# Altium schematic symbol library ZZQ_Schlib.SchLib: 86 symbols (part 3 of 3)
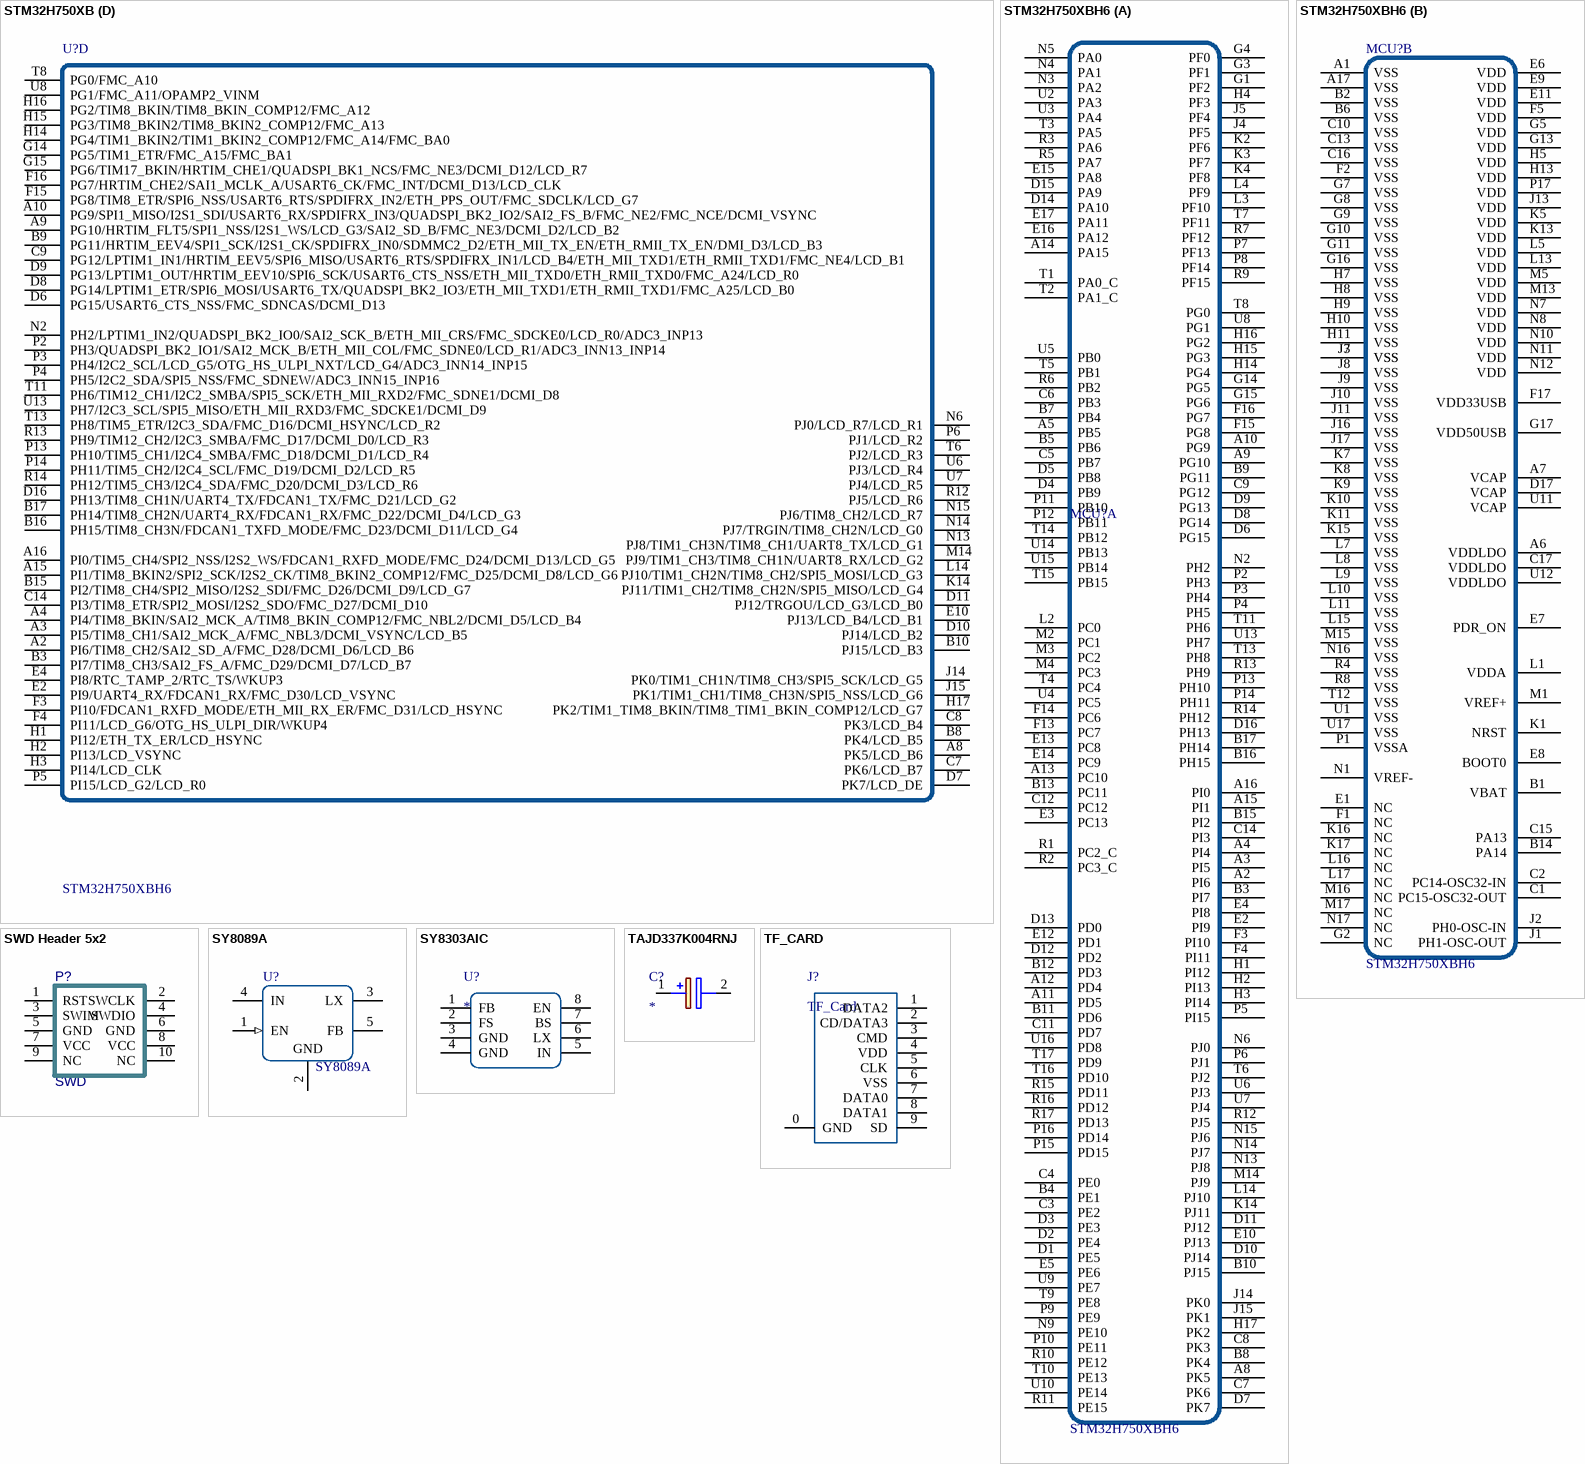
[diagram p10: symbols STM32H750XB to TF_CARD]

## SY8089A
designator U?
Single Output Low Noise LDO, 400 mA, Fixed 3.3 V Output, 1.7 to 5.5 V Input, with Reverse Current Protection, 5-pin SOT-23 (DBV), -40 to 85 degC, Green (RoHS & no Sb/Br); Manufacturer: Texas Instruments; PartNumber: TPS73633DBVR; Accuracy(%): 1; Fixed Output Options(V): 3.3; Iout(Max)(A): 0.4; Iq(Typ)(mA): 0.3; Rating: Catalog; SubFamily: Single Channel LDO; Vdo(Typ)(mV): 75; Vin(Max)(V): 5.5; Vin(Min)(V): 1.7; DatasheetVersion: SBVS038T; PackageVersion: 4073253-4/K; PackageReference: DBV5; PackageDescription: 5-Pin Plastic Small Outline, Body 1.60 脳 2.90 mm, Pitch 0.95 mm; Supplier 1: Digi-Key; Supplier Part Number 1: 296-27064-2-ND; Supplier 2: Digi-Key; Supplier Part Number 2: 296-27064-1-ND; Supplier 3: Digi-Key; Supplier Part Number 3: 296-27064-6-ND; Supplier 4: Newark; Supplier Part Number 4: 87H2980; Supplier 5: Mouser; Supplier Part Number 5: 595-TPS73633DBVR; Eco-Plan: Green (RoHS & no Sb/Br); Vout Adj(Max)(V): 3.3; Vout Adj(Min)(V): 3.3; Mounting Technology: Surface Mount; Code_JEDEC: MO-178; ComponentLink1Description: Manufacturer URL; ComponentLink1URL: http://www.ti.com/; ComponentLink2Description: Datasheet; ComponentLink2URL: http://www.ti.com/general/docs/lit/getliterature.tsp?genericPartNumber=TPS73633&fileType=pdf; ComponentLink3Description: Package Specification; ComponentLink3URL: http://www.ti.com/litv/pdf/mpds018i; ComponentLink4Description: URL Link1; ComponentLink4URL: Samples URL:http://www.ti.com/product/tps73633#samples
footprint LC-SOT-23-5
pins: 1 EN (in) "Driving the enable pin (EN) high turns on the regulator .Driving this pin low puts the regulator into shutdown mode.EN can be connected to IN if not used.", 2 GND (power) "Ground.", 3 LX (power) "Output for the regulator. A small capacitor (total typical capacitance >= 2.0uF ceramic) is needed from this pin to ground to assure stability.", 4 IN (power) "Input supply.", 5 FB "Fixed voltage versions only; connecting an external capacitor to this pin bypasses noise generated by the internal bandgap. This capacitor allows output noise to be reduced to very low levels."

## SY8303AIC
designator U?
pins: 1 FB (power) "Output for the regulator. A small capacitor (total typical capacitance >= 2.0uF ceramic) is needed from this pin to ground to assure stability.", 2 FS (power) "Output for the regulator. A small capacitor (total typical capacitance >= 2.0uF ceramic) is needed from this pin to ground to assure stability.", 3 GND (power) "Output for the regulator. A small capacitor (total typical capacitance >= 2.0uF ceramic) is needed from this pin to ground to assure stability.", 4 GND (power) "Output for the regulator. A small capacitor (total typical capacitance >= 2.0uF ceramic) is needed from this pin to ground to assure stability.", 5 IN (power) "Output for the regulator. A small capacitor (total typical capacitance >= 2.0uF ceramic) is needed from this pin to ground to assure stability.", 6 LX (power) "Output for the regulator. A small capacitor (total typical capacitance >= 2.0uF ceramic) is needed from this pin to ground to assure stability.", 7 BS (power) "Output for the regulator. A small capacitor (total typical capacitance >= 2.0uF ceramic) is needed from this pin to ground to assure stability.", 8 EN (power) "Output for the regulator. A small capacitor (total typical capacitance >= 2.0uF ceramic) is needed from this pin to ground to assure stability."

## TAJD337K004RNJ
designator C?
Capacitor Polarised; Manufacturer_Name: Kyocera AVX; Manufacturer_Part_Number: TAJD337K004RNJ; Datasheet Link: http://datasheets.avx.com/TAJ.pdf; Height: 3.1mm
footprint CAPPM7344X310N
pins: 1 +, 2 -

## TF_CARD
designator J?, comment TF_Card
TF卡座; 当前库版本V2022.12.25 @淘宝卖家:黄晶宝石: 最新版本发布https://shop463601444.taobao.com; BOM名称: TF卡座
footprint Micro SD (淘宝ID:黄晶宝石)
pins: 0 GND, 1 DATA2, 2 CD/DATA3, 3 CMD, 4 VDD, 5 CLK, 6 VSS, 7 DATA0, 8 DATA1, 9 SD

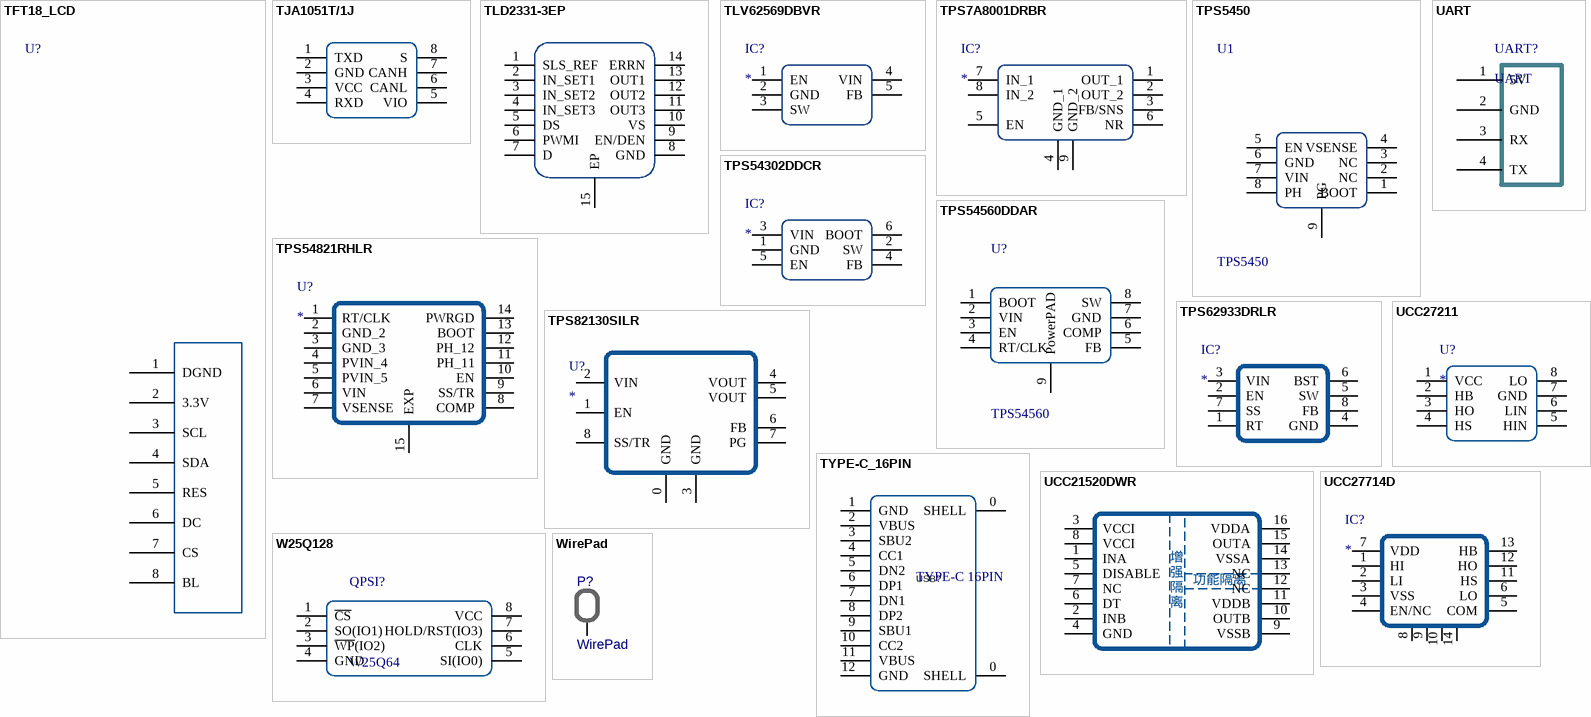
[diagram p7: symbols TFT18_LCD to WirePad]

## TFT18_LCD
designator U?
footprint 18TFT+固定孔
pins: 1 DGND, 2 3.3V, 3 SCL, 4 SDA, 5 RES, 6 DC, 7 CS, 8 BL

## TJA1051T/1J
designator U?  (value not drawn)
Manufacturer: NXP(恩智浦); Add into BOM: yes; Data Rate: 5Mbps; Supply Voltage: 4.5V~5.5V; Name: TJA1051T/1J; Symbol: TJA1051T/1J; Device: TJA1051T/1J; LCSC Part Name: 5Mbps 4.5V~5.5V; Supplier Part: C92211; Manufacturer Part: TJA1051T/1J; Supplier Footprint: SOIC-8; JLCPCB Part Class: Extended Part; Datasheet: https://atta.szlcsc.com/upload/public/pdf/source/20171116/C92211_15108227942971124496.pdf; Supplier: LCSC; Convert to PCB: yes; Type: 收发器
footprint SOIC-8_150mil (封装库来自淘宝卖家 ID：黄晶宝石)
pins: 1 TXD, 2 GND, 3 VCC, 4 RXD, 5 VIO, 6 CANL, 7 CANH, 8 S

## TLD2331-3EP
designator U?  (value not drawn)
Manufacturer: Infineon(英飞凌); Add into BOM: yes; Name: TLD2331-3EP; Symbol: TLD2331-3EP; Device: TLD2331-3EP; LCSC Part Name: TLD2331-3EP; Supplier Part: C539647; Manufacturer Part: TLD2331-3EP; Supplier Footprint: TSDSO-14-EP; JLCPCB Part Class: Extended Part; Datasheet: https://atta.szlcsc.com/upload/public/pdf/source/20200601/C539647_3F9B388C9CE0327B84354FE02B912F4C.pdf; Supplier: LCSC; Convert to PCB: yes
pins: 1 SLS_REF, 2 IN_SET1, 3 IN_SET2, 4 IN_SET3, 5 DS, 6 PWMI, 7 D, 8 GND, 9 EN/DEN, 10 VS, 11 OUT3, 12 OUT2, 13 OUT1, 14 ERRN, 15 EP

## TLV62569DBVR
designator IC?
Integrated Circuit; Manufacturer_Name: Texas Instruments; Manufacturer_Part_Number: TLV62569DBVR; Datasheet Link: http://www.ti.com/lit/gpn/tlv62569; Height: 1.45mm; Mouser Part Number: 595-TLV62569DBVR; Mouser Price/Stock: https://www.mouser.co.uk/ProductDetail/Texas-Instruments/TLV62569DBVR?qs=0C8XhJW8e4oaylc%252BzBrCmA%3D%3D; Arrow Part Number: TLV62569DBVR; Arrow Price/Stock: https://www.arrow.com/en/products/tlv62569dbvr/texas-instruments?region=nac
footprint TLV62569DBVR
pins: 1 EN, 2 GND, 3 SW, 4 VIN, 5 FB

## TPS7A8001DRBR
designator IC?
Integrated Circuit; Manufacturer_Name: Texas Instruments; Manufacturer_Part_Number: TPS7A8001DRBR; Datasheet Link: https://datasheet.lcsc.com/szlcsc/Texas-Instruments-TI-TPS7A8001DRBR_C105265.pdf; Height: 1mm; Mouser Part Number: 595-TPS7A8001DRBR; Mouser Price/Stock: https://www.mouser.co.uk/ProductDetail/Texas-Instruments/TPS7A8001DRBR?qs=CLImetaeaXWznukkeYNGNw%3D%3D; Arrow Part Number: TPS7A8001DRBR; Arrow Price/Stock: https://www.arrow.com/en/products/tps7a8001drbr/texas-instruments?region=nac
footprint TPS7A8001DRBR
pins: 1 OUT_1, 2 OUT_2, 3 FB/SNS, 4 GND_1, 5 EN, 6 NR, 7 IN_1, 8 IN_2, 9 GND_2

## TPS5450
designator U1
footprint SOIC-8_EP (5*6*1.8mm（长宽高)
pins: 1 BOOT, 2 NC, 3 NC, 4 VSENSE, 5 EN, 6 GND, 7 VIN, 8 PH, 9 PG

## TPS54302DDCR
designator IC?
Integrated Circuit; Manufacturer_Name: Texas Instruments; Manufacturer_Part_Number: TPS54302DDCR; Datasheet Link: http://www.ti.com/general/docs/suppproductinfo.tsp?distId=10&gotoUrl=http%3A%2F%2Fwww.ti.com%2Flit%2Fgpn%2Ftps54302; Height: 1.1mm; Mouser Part Number: 595-TPS54302DDCR; Mouser Price/Stock: https://www.mouser.co.uk/ProductDetail/Texas-Instruments/TPS54302DDCR?qs=zEmsApcVOkUXM7UP0GSO2g%3D%3D; Arrow Part Number: TPS54302DDCR; Arrow Price/Stock: https://www.arrow.com/en/products/tps54302ddcr/texas-instruments?region=nac
footprint TPS54302
pins: 1 GND, 2 SW, 3 VIN, 4 FB, 5 EN, 6 BOOT

## TPS54560DDAR
designator U?, comment TPS54560
footprint SOIC-8_EP (5*6*1.8mm（长宽高)
pins: 1 BOOT, 2 VIN, 3 EN, 4 RT/CLK, 5 FB, 6 COMP, 7 GND, 8 SW, 9 PowerPAD

## TPS54821RHLR
designator U?
MP: TPS54821RHLR; Availability: Unavailable; Value: *; Package: None; Price: None
footprint TPS54821RHLR
pins: 1 RT/CLK, 2 GND_2, 3 GND_3, 4 PVIN_4, 5 PVIN_5, 6 VIN, 7 VSENSE, 8 COMP, 9 SS/TR, 10 EN, 11 PH_11, 12 PH_12, 13 BOOT, 14 PWRGD, 15 EXP

## TPS62933DRLR
designator IC?
Integrated Circuit; Manufacturer_Name: Texas Instruments; Manufacturer_Part_Number: TPS62933DRLR; Datasheet Link: https://www.ti.com/lit/ds/symlink/tps62933.pdf?ts=1626073394234; Height: 0.6mm; Mouser Part Number: 595-TPS62933DRLR; Mouser Price/Stock: https://www.mouser.co.uk/ProductDetail/Texas-Instruments/TPS62933DRLR?qs=Rp5uXu7WBW9fv47wfQVntQ%3D%3D; Arrow Part Number: TPS62933DRLR; Arrow Price/Stock: https://www.arrow.com/en/products/tps62933drlr/texas-instruments?region=nac
footprint TPS62933
pins: 1 RT, 2 EN, 3 VIN, 4 GND, 5 SW, 6 BST, 7 SS, 8 FB

## TPS82130SILR
designator U?
17-V input 3-A step-down converter module with integrated inductor; MF: Texas Instruments; MP: TPS82130SILR; SnapEDA_Link: https://www.snapeda.com/parts/TPS82130SILR/Texas+Instruments/view-part/?ref=snap; Check_prices: https://www.snapeda.com/parts/TPS82130SILR/Texas+Instruments/view-part/?ref=eda; Value: *; Purchase-URL: https://pricing.snapeda.com/search/part/TPS82130SILR/?ref=eda; Availability: In Stock; Price: None; Package: USIP-8 Texas Instruments
footprint TPS82130SILR
pins: 0 GND (power), 1 EN (power), 2 VIN (power), 3 GND (power), 4 VOUT (power), 5 VOUT (power), 6 FB (power), 7 PG (power), 8 SS/TR (power)

## TYPE-C_16PIN
designator USB?, comment TYPE-C 16PIN
Manufacturer: SHOU HAN(首韩); Name: TYPE-C 16PIN 2MD(073); Add into BOM: yes; Gender: 母座; Number of Contacts: 16; Number of Ports: 1; Current Rating - Power (Max): 5A; Symbol: TYPE-C 16PIN 2MD(073); Device: TYPE-C 16PIN 2MD(073); LCSC Part Name: TYPE-C母座 16P 4脚插件带定位柱 不锈钢外壳 2次模顶; Supplier Part: C2765186; Manufacturer Part: TYPE-C 16PIN 2MD(073); Supplier Footprint: SMD; JLCPCB Part Class: Extended Part; Supplier: LCSC; Convert to PCB: yes; Connector Type: Type-C; Standard: -; Mounting Style: 卧贴; Operating Temperature Range: -25℃~+85℃
footprint TYPE-C-12PIN
pins: 0 SHELL, 0 SHELL, 1 GND, 2 VBUS, 3 SBU2, 4 CC1, 5 DN2, 6 DP1, 7 DN1, 8 DP2, 9 SBU1, 10 CC2, 11 VBUS, 12 GND

## UART
designator UART?
pins: 1 5V, 2 GND, 3 RX, 4 TX

## UCC21520DWR
designator U?  (value not drawn)
Manufacturer: TI(德州仪器); Add into BOM: yes; Number of Drivers: 2; Peak Output Current(sink): 6A; Peak Output Current(source): 4A; Rise Time: 6ns; Fall Time: 7ns; Name: UCC21520DWR; Symbol: UCC21520DWR; Device: UCC21520DWR; LCSC Part Name: UCC21520DWR; Supplier Part: C601651; Manufacturer Part: UCC21520DWR; Supplier Footprint: SOP-16-300mil; JLCPCB Part Class: Extended Part; Datasheet: https://www.ti.com/cn/lit/gpn/ucc21520; Supplier: LCSC; Convert to PCB: yes; Operating Temperature: -40℃~+125℃
footprint UCC21520DWR
pins: 1 INA, 2 INB, 3 VCCI, 4 GND, 5 DISABLE, 6 DT, 7 NC, 8 VCCI, 9 VSSB, 10 OUTB, 11 VDDB, 12 NC, 13 NC, 14 VSSA, 15 OUTA, 16 VDDA
text: 增; 强; 功能隔离; 隔; 离

## UCC27211
designator U?
footprint SOIC-8_150mil (封装库来自淘宝卖家 ID：黄晶宝石)
pins: 1 VCC (power) "Output for the regulator. A small capacitor (total typical capacitance >= 2.0uF ceramic) is needed from this pin to ground to assure stability.", 2 HB (power) "Output for the regulator. A small capacitor (total typical capacitance >= 2.0uF ceramic) is needed from this pin to ground to assure stability.", 3 HO (power) "Output for the regulator. A small capacitor (total typical capacitance >= 2.0uF ceramic) is needed from this pin to ground to assure stability.", 4 HS (power) "Output for the regulator. A small capacitor (total typical capacitance >= 2.0uF ceramic) is needed from this pin to ground to assure stability.", 5 HIN (power) "Output for the regulator. A small capacitor (total typical capacitance >= 2.0uF ceramic) is needed from this pin to ground to assure stability.", 6 LIN (power) "Output for the regulator. A small capacitor (total typical capacitance >= 2.0uF ceramic) is needed from this pin to ground to assure stability.", 7 GND (power) "Output for the regulator. A small capacitor (total typical capacitance >= 2.0uF ceramic) is needed from this pin to ground to assure stability.", 8 LO (power) "Output for the regulator. A small capacitor (total typical capacitance >= 2.0uF ceramic) is needed from this pin to ground to assure stability."

## UCC27714D
designator IC?
Integrated Circuit; Manufacturer_Name: Texas Instruments; Manufacturer_Part_Number: UCC27714D; Datasheet Link: http://www.ti.com/general/docs/lit/getliterature.tsp?genericPartNumber=UCC27714&&fileType=pdf; Height: 1.75mm; Mouser Part Number: 595-UCC27714D; Mouser Price/Stock: https://www.mouser.co.uk/ProductDetail/Texas-Instruments/UCC27714D?qs=dHDuPHwQO7%252B610yeJolAhg%3D%3D; Arrow Part Number: UCC27714D; Arrow Price/Stock: https://www.arrow.com/en/products/ucc27714d/texas-instruments?region=nac
footprint UCC27714
pins: 1 HI, 2 LI, 3 VSS, 4 EN/NC, 5 COM, 6 LO, 7 VDD, 8 NC_1, 9 NC_2, 10 NC_3, 11 HS, 12 HO, 13 HB, 14 NC_4

## W25Q128
designator QPSI?, comment W25Q64
W25Q128
pins: 1 ~{CS}, 2 SO(IO1), 3 ~{WP}(IO2), 4 GND, 5 SI(IO0) (power), 6 CLK, 7 HOLD/RST(IO3) (power), 8 VCC
2 alternate drawings of the same symbol

## WirePad
designator P?  (no BOM)
线缆焊盘
footprint WirePad (焊线盘 表贴 4.5mm x 7mm)
pins: 1

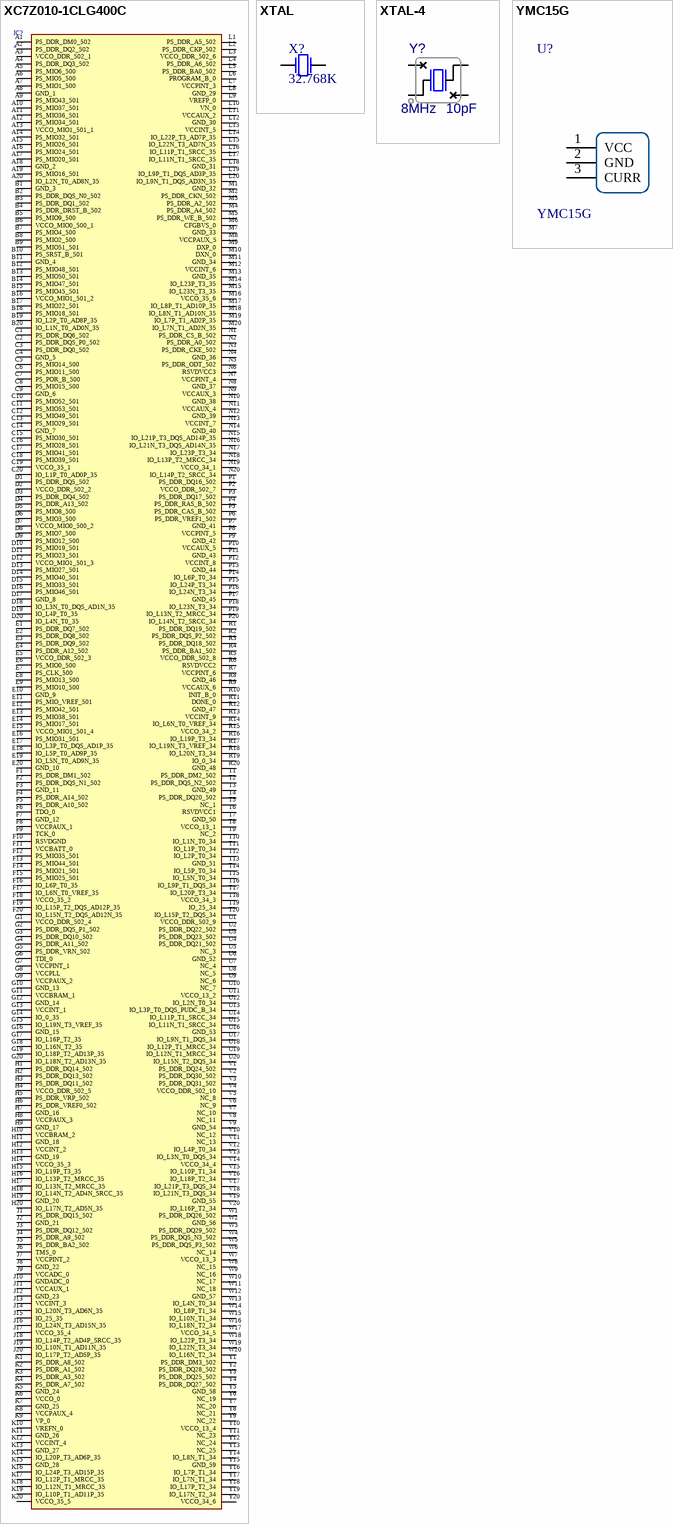
[diagram p8: symbols XC7Z010-1CLG400C to YMC15G]

## XC7Z010-1CLG400C
designator IC?
Integrated Circuit; Manufacturer_Name: AMD; Manufacturer_Part_Number: XC7Z010-1CLG400C; Datasheet Link: https://www.xilinx.com/support/documentation/data_sheets/ds187-XC7Z010-XC7Z020-Data-Sheet.pdf; Height: 1.6mm; Mouser Part Number: 217-XC7Z010-1CLG400C; Mouser Price/Stock: https://www.mouser.co.uk/ProductDetail/Xilinx/XC7Z010-1CLG400C?qs=rrS6PyfT74fH%252BORuML3uDw%3D%3D
footprint BGA400C80P20X20_1700X1700X160
pins: A1 PS_DDR_DM0_502, A2 PS_DDR_DQ2_502, A3 VCCO_DDR_502_1, A4 PS_DDR_DQ3_502, A5 PS_MIO6_500, A6 PS_MIO5_500, A7 PS_MIO1_500, A8 GND_1, A9 PS_MIO43_501, A10 PS_MIO37_501, A11 PS_MIO36_501, A12 PS_MIO34_501, A13 VCCO_MIO1_501_1, A14 PS_MIO32_501, A15 PS_MIO26_501, A16 PS_MIO24_501, A17 PS_MIO20_501, A18 GND_2, A19 PS_MIO16_501, A20 IO_L2N_T0_AD8N_35, B1 GND_3, B2 PS_DDR_DQS_N0_502, B3 PS_DDR_DQ1_502, B4 PS_DDR_DRST_B_502, B5 PS_MIO9_500, B6 VCCO_MIO0_500_1, B7 PS_MIO4_500, B8 PS_MIO2_500, B9 PS_MIO51_501, B10 PS_SRST_B_501, B11 GND_4, B12 PS_MIO48_501, B13 PS_MIO50_501, B14 PS_MIO47_501, B15 PS_MIO45_501, B16 VCCO_MIO1_501_2, B17 PS_MIO22_501, B18 PS_MIO18_501, B19 IO_L2P_T0_AD8P_35, B20 IO_L1N_T0_AD0N_35, C1 PS_DDR_DQ6_502, C2 PS_DDR_DQS_P0_502, C3 PS_DDR_DQ0_502, C4 GND_5, C5 PS_MIO14_500, C6 PS_MIO11_500, C7 PS_POR_B_500, C8 PS_MIO15_500, C9 GND_6, C10 PS_MIO52_501, C11 PS_MIO53_501, C12 PS_MIO49_501, C13 PS_MIO29_501, C14 GND_7, C15 PS_MIO30_501, C16 PS_MIO28_501, C17 PS_MIO41_501, C18 PS_MIO39_501, C19 VCCO_35_1, C20 IO_L1P_T0_AD0P_35, D1 PS_DDR_DQ5_502, D2 VCCO_DDR_502_2, D3 PS_DDR_DQ4_502, D4 PS_DDR_A13_502, D5 PS_MIO8_500, D6 PS_MIO3_500, D7 VCCO_MIO0_500_2, D8 PS_MIO7_500, D9 PS_MIO12_500, D10 PS_MIO19_501, D11 PS_MIO23_501, D12 VCCO_MIO1_501_3, D13 PS_MIO27_501, D14 PS_MIO40_501, D15 PS_MIO33_501, D16 PS_MIO46_501, D17 GND_8, D18 IO_L3N_T0_DQS_AD1N_35, D19 IO_L4P_T0_35, D20 IO_L4N_T0_35, E1 PS_DDR_DQ7_502, E2 PS_DDR_DQ8_502, E3 PS_DDR_DQ9_502, E4 PS_DDR_A12_502, E5 VCCO_DDR_502_3, E6 PS_MIO0_500, E7 PS_CLK_500, E8 PS_MIO13_500, E9 PS_MIO10_500, E10 GND_9, E11 PS_MIO_VREF_501, E12 PS_MIO42_501, E13 PS_MIO38_501, E14 PS_MIO17_501, E15 VCCO_MIO1_501_4, E16 PS_MIO31_501, E17 IO_L3P_T0_DQS_AD1P_35, E18 IO_L5P_T0_AD9P_35, E19 IO_L5N_T0_AD9N_35, E20 GND_10, F1 PS_DDR_DM1_502, F2 PS_DDR_DQS_N1_502, F3 GND_11, F4 PS_DDR_A14_502, F5 PS_DDR_A10_502, F6 TDO_0, F7 GND_12, F8 VCCPAUX_1, F9 TCK_0, F10 RSVDGND, F11 VCCBATT_0, F12 PS_MIO35_501, F13 PS_MIO44_501, F14 PS_MIO21_501, F15 PS_MIO25_501, F16 IO_L6P_T0_35, F17 IO_L6N_T0_VREF_35, F18 VCCO_35_2, F19 IO_L15P_T2_DQS_AD12P_35, F20 IO_L15N_T2_DQS_AD12N_35, G1 VCCO_DDR_502_4, G2 PS_DDR_DQS_P1_502, G3 PS_DDR_DQ10_502, G4 PS_DDR_A11_502, G5 PS_DDR_VRN_502, G6 TDI_0, G7 VCCPINT_1, G8 VCCPLL, G9 VCCPAUX_2, G10 GND_13, G11 VCCBRAM_1, G12 GND_14, G13 VCCINT_1, G14 IO_0_35, G15 IO_L19N_T3_VREF_35, G16 GND_15, G17 IO_L16P_T2_35, G18 IO_L16N_T2_35, G19 IO_L18P_T2_AD13P_35, G20 IO_L18N_T2_AD13N_35, H1 PS_DDR_DQ14_502, H2 PS_DDR_DQ13_502, H3 PS_DDR_DQ11_502, H4 VCCO_DDR_502_5, H5 PS_DDR_VRP_502, H6 PS_DDR_VREF0_502, H7 GND_16, H8 VCCPAUX_3, H9 GND_17, H10 VCCBRAM_2, H11 GND_18, H12 VCCINT_2, H13 GND_19, H14 VCCO_35_3, H15 IO_L19P_T3_35, H16 IO_L13P_T2_MRCC_35, H17 IO_L13N_T2_MRCC_35, H18 IO_L14N_T2_AD4N_SRCC_35, H19 GND_20, H20 IO_L17N_T2_AD5N_35, J1 PS_DDR_DQ15_502, J2 GND_21, J3 PS_DDR_DQ12_502, J4 PS_DDR_A9_502, J5 PS_DDR_BA2_502, J6 TMS_0, J7 VCCPINT_2, J8 GND_22, J9 VCCADC_0, J10 GNDADC_0, J11 VCCAUX_1, J12 GND_23, J13 VCCINT_3, J14 IO_L20N_T3_AD6N_35, J15 IO_25_35, J16 IO_L24N_T3_AD15N_35, J17 VCCO_35_4, J18 IO_L14P_T2_AD4P_SRCC_35, J19 IO_L10N_T1_AD11N_35, J20 IO_L17P_T2_AD5P_35, K1 PS_DDR_A8_502, K2 PS_DDR_A1_502, K3 PS_DDR_A3_502, K4 PS_DDR_A7_502, K5 GND_24, K6 VCCO_0, K7 GND_25, K8 VCCPAUX_4, K9 VP_0, K10 VREFN_0, K11 GND_26, K12 VCCINT_4, K13 GND_27, K14 IO_L20P_T3_AD6P_35, K15 GND_28, K16 IO_L24P_T3_AD15P_35, K17 IO_L12P_T1_MRCC_35, K18 IO_L12N_T1_MRCC_35, K19 IO_L10P_T1_AD11P_35, K20 VCCO_35_5, L1 PS_DDR_A5_502, L2 PS_DDR_CKP_502, L3 VCCO_DDR_502_6, L4 PS_DDR_A6_502, L5 PS_DDR_BA0_502, L6 PROGRAM_B_0, L7 VCCPINT_3, L8 GND_29, L9 VREFP_0, L10 VN_0, L11 VCCAUX_2, L12 GND_30, L13 VCCINT_5, L14 IO_L22P_T3_AD7P_35, L15 IO_L22N_T3_AD7N_35, L16 IO_L11P_T1_SRCC_35, L17 IO_L11N_T1_SRCC_35, L18 GND_31, L19 IO_L9P_T1_DQS_AD3P_35, L20 IO_L9N_T1_DQS_AD3N_35, M1 GND_32, M2 PS_DDR_CKN_502, M3 PS_DDR_A2_502, M4 PS_DDR_A4_502, M5 PS_DDR_WE_B_502, M6 CFGBVS_0, M7 GND_33, M8 VCCPAUX_5, M9 DXP_0, M10 DXN_0, M11 GND_34, M12 VCCINT_6, M13 GND_35, M14 IO_L23P_T3_35, M15 IO_L23N_T3_35, M16 VCCO_35_6, M17 IO_L8P_T1_AD10P_35, M18 IO_L8N_T1_AD10N_35, M19 IO_L7P_T1_AD2P_35, M20 IO_L7N_T1_AD2N_35, N1 PS_DDR_CS_B_502, N2 PS_DDR_A0_502, N3 PS_DDR_CKE_502, N4 GND_36, N5 PS_DDR_ODT_502, N6 RSVDVCC3, N7 VCCPINT_4, N8 GND_37, N9 VCCAUX_3, N10 GND_38, N11 VCCAUX_4, N12 GND_39, N13 VCCINT_7, N14 GND_40, N15 IO_L21P_T3_DQS_AD14P_35, N16 IO_L21N_T3_DQS_AD14N_35, N17 IO_L23P_T3_34, N18 IO_L13P_T2_MRCC_34, N19 VCCO_34_1, N20 IO_L14P_T2_SRCC_34, P1 PS_DDR_DQ16_502, P2 VCCO_DDR_502_7, P3 PS_DDR_DQ17_502, P4 PS_DDR_RAS_B_502, P5 PS_DDR_CAS_B_502, P6 PS_DDR_VREF1_502, P7 GND_41, P8 VCCPINT_5, P9 GND_42, P10 VCCAUX_5, P11 GND_43, P12 VCCINT_8, P13 GND_44, P14 IO_L6P_T0_34, P15 IO_L24P_T3_34, P16 IO_L24N_T3_34, P17 GND_45, P18 IO_L23N_T3_34, P19 IO_L13N_T2_MRCC_34, P20 IO_L14N_T2_SRCC_34, R1 PS_DDR_DQ19_502, R2 PS_DDR_DQS_P2_502, R3 PS_DDR_DQ18_502, R4 PS_DDR_BA1_502, R5 VCCO_DDR_502_8, R6 RSVDVCC2, R7 VCCPINT_6, R8 GND_46, R9 VCCAUX_6, R10 INIT_B_0, R11 DONE_0, R12 GND_47, R13 VCCINT_9, R14 IO_L6N_T0_VREF_34, R15 VCCO_34_2, R16 IO_L19P_T3_34, R17 IO_L19N_T3_VREF_34, R18 IO_L20N_T3_34, R19 IO_0_34, R20 GND_48, T1 PS_DDR_DM2_502, T2 PS_DDR_DQS_N2_502, T3 GND_49, T4 PS_DDR_DQ20_502, T5 NC_1, T6 RSVDVCC1, T7 GND_50, T8 VCCO_13_1, T9 NC_2, T10 IO_L1N_T0_34, T11 IO_L1P_T0_34, T12 IO_L2P_T0_34, T13 GND_51, T14 IO_L5P_T0_34, T15 IO_L5N_T0_34, T16 IO_L9P_T1_DQS_34, T17 IO_L20P_T3_34, T18 VCCO_34_3, T19 IO_25_34, T20 IO_L15P_T2_DQS_34, U1 VCCO_DDR_502_9, U2 PS_DDR_DQ22_502, U3 PS_DDR_DQ23_502, U4 PS_DDR_DQ21_502, U5 NC_3, U6 GND_52, U7 NC_4, U8 NC_5, U9 NC_6, U10 NC_7, U11 VCCO_13_2, U12 IO_L2N_T0_34, U13 IO_L3P_T0_DQS_PUDC_B_34, U14 IO_L11P_T1_SRCC_34, U15 IO_L11N_T1_SRCC_34, U16 GND_53, U17 IO_L9N_T1_DQS_34, U18 IO_L12P_T1_MRCC_34, U19 IO_L12N_T1_MRCC_34, U20 IO_L15N_T2_DQS_34, V1 PS_DDR_DQ24_502, V2 PS_DDR_DQ30_502, V3 PS_DDR_DQ31_502, V4 VCCO_DDR_502_10, V5 NC_8, V6 NC_9, V7 NC_10, V8 NC_11, V9 GND_54, V10 NC_12, V11 NC_13, V12 IO_L4P_T0_34, V13 IO_L3N_T0_DQS_34, V14 VCCO_34_4, V15 IO_L10P_T1_34, V16 IO_L18P_T2_34, V17 IO_L21P_T3_DQS_34, V18 IO_L21N_T3_DQS_34, V19 GND_55, V20 IO_L16P_T2_34, W1 PS_DDR_DQ26_502, W2 GND_56, W3 PS_DDR_DQ29_502, W4 PS_DDR_DQS_N3_502, W5 PS_DDR_DQS_P3_502, W6 NC_14, W7 VCCO_13_3, W8 NC_15, W9 NC_16, W10 NC_17, W11 NC_18, W12 GND_57, W13 IO_L4N_T0_34, W14 IO_L8P_T1_34, W15 IO_L10N_T1_34, W16 IO_L18N_T2_34, W17 VCCO_34_5, W18 IO_L22P_T3_34, W19 IO_L22N_T3_34, W20 IO_L16N_T2_34, Y1 PS_DDR_DM3_502, Y2 PS_DDR_DQ28_502, Y3 PS_DDR_DQ25_502, Y4 PS_DDR_DQ27_502, Y5 GND_58, Y6 NC_19, Y7 NC_20, Y8 NC_21, Y9 NC_22, Y10 VCCO_13_4, Y11 NC_23, Y12 NC_24, Y13 NC_25, Y14 IO_L8N_T1_34, Y15 GND_59, Y16 IO_L7P_T1_34, Y17 IO_L7N_T1_34, Y18 IO_L17P_T2_34, Y19 IO_L17N_T2_34, Y20 VCCO_34_6

## XTAL
designator X?, comment 32.768K
Frequency: 32.768K
footprint XTAL-3215 (3.2*1.5*0.6mm(长宽高))
pins: 1 OSC1, 2 OSC2

## XTAL-4
designator Y?, comment Load Capactiance: 10pF  (hidden comment: 8MHz)
四脚无源晶振 Crystal Oscillator; Published: 8-Jun-2000; Revision: July-2002: Re-released for DXP Platform.; Publisher: Altium Limited; Frequency: 8MHz
footprint XTAL-3225 (3.2*2.5*0.7mm(长宽高)                             淘宝ID:黄晶宝石)
pins: 1 OSC1, 2 NC, 3 OSC2, 4 NC

## YMC15G
designator U?
footprint YMC15G
pins: 1 VCC, 2 GND, 3 CURR